# EAGLE library part RS485SOIC (library tov)
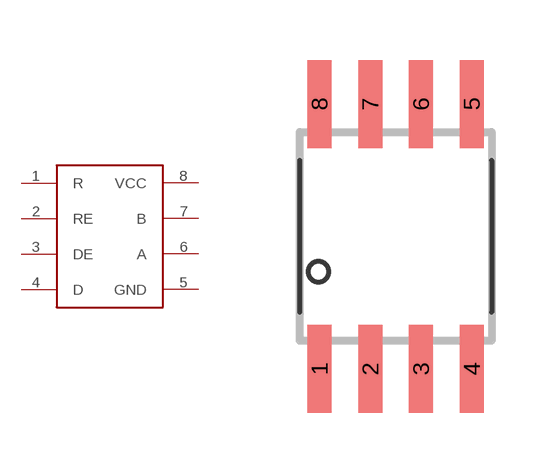
[diagram p4: symbol with the pads of SOIC8; footprint SOIC8]

Designator prefix -

## RS485SOIC  [SOIC8]
1  R
2  RE
3  DE
4  D
5  GND
6  A
7  B
8  VCC

## Footprint SOIC8 (pad centres in mm)
Small Outline IC - 208mil Wide
smd 0.6 x 2.2: 1 -1.905,-3.315; 2 -0.635,-3.315; 3 0.635,-3.315; 4 1.905,-3.315; 5 1.905,3.315; 6 0.635,3.315; 7 -0.635,3.315; 8 -1.905,3.315